# Altium schematic symbol library Schlib1.SchLib: 59 symbols
Pins are listed as number, name and electrical type; pins without a type are passive.

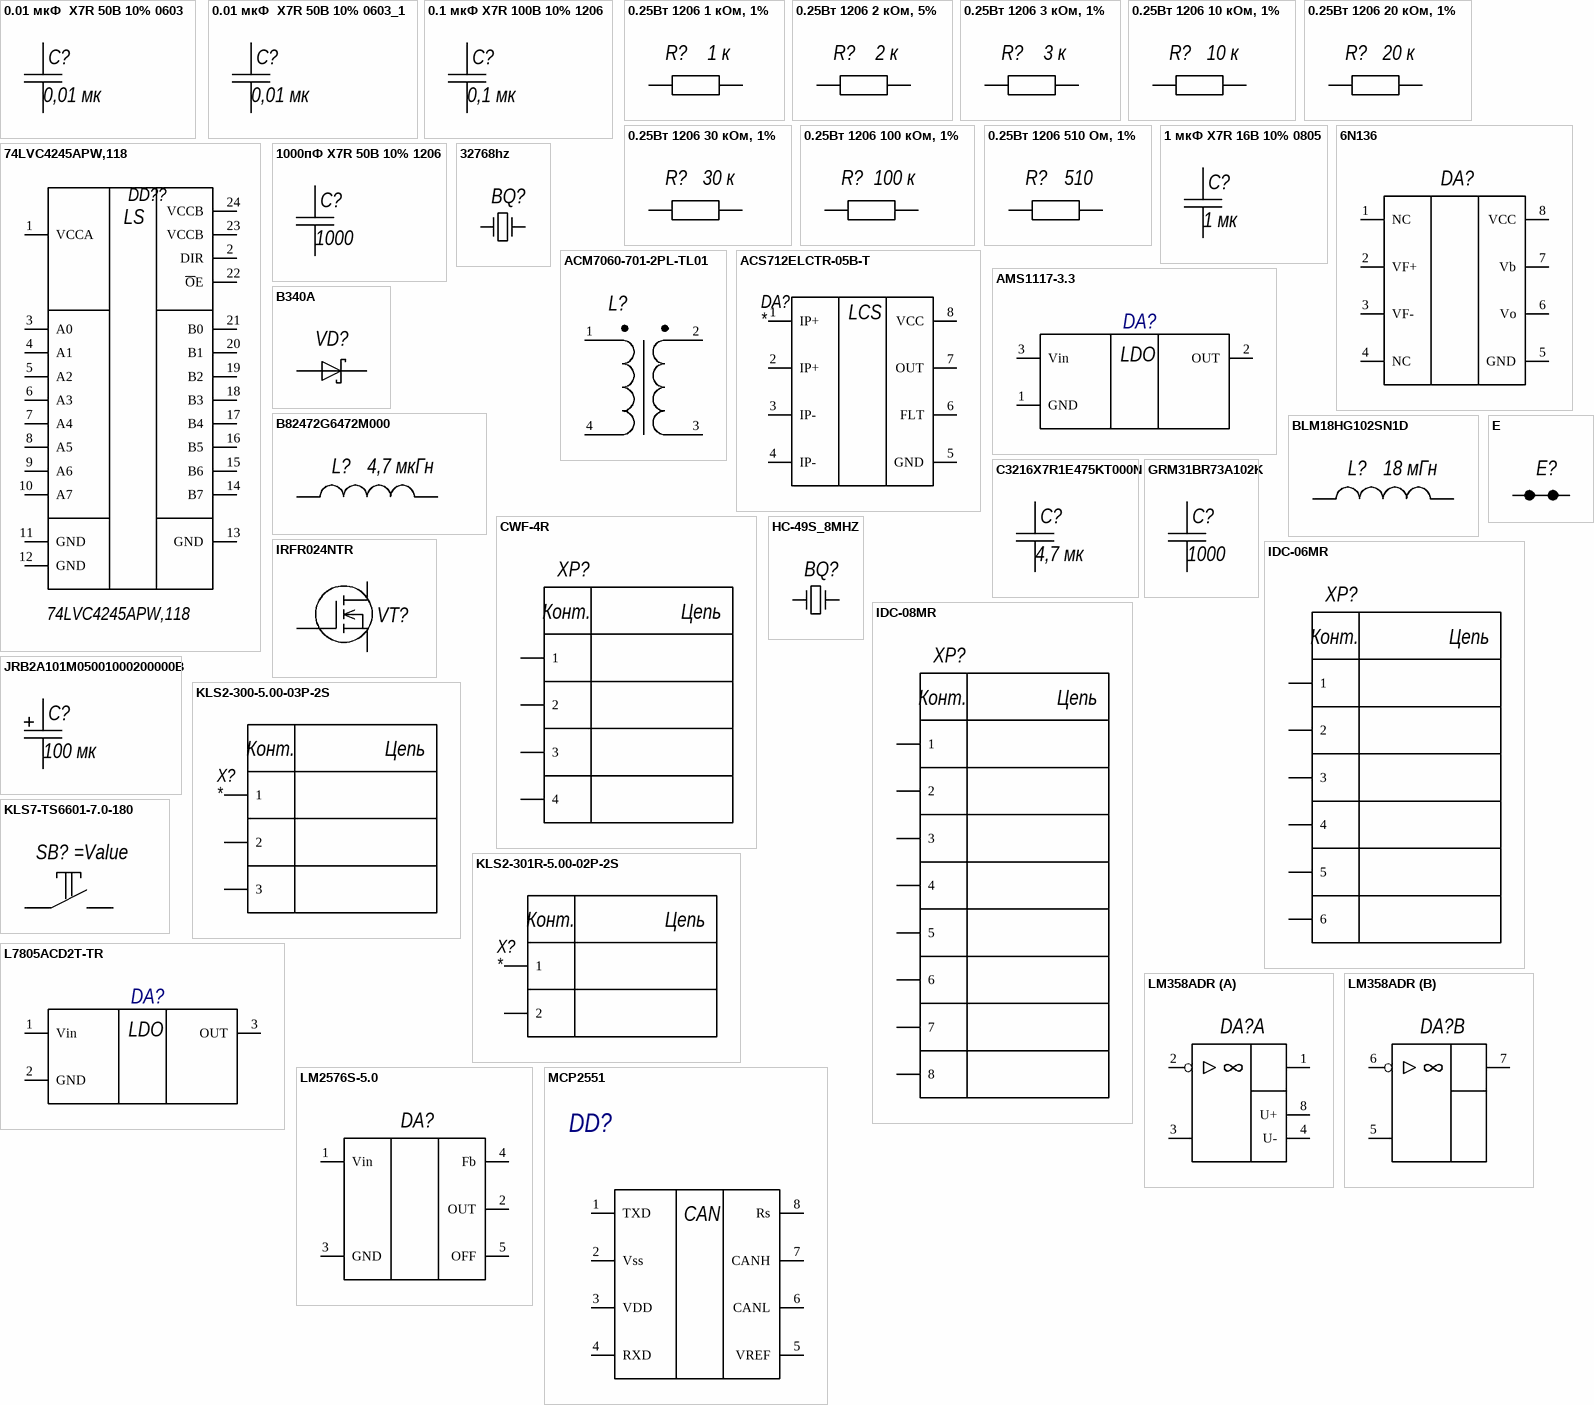
[diagram p0: symbols 0.01 мкФ  X7R 50В 10% 0603 to MCP2551]

## 0.01 мкФ  X7R 50В 10% 0603
designator C?, comment 0,01 мк
Конденсатор 0,01 мкФ 50 В; Part Number: 0.01 мкФ  X7R 50В 10% 0603; Manufacturer: Murata; Article: 238964796; Voltage: 50 В; Type: Конденсатор; Value: 0,01 мк; Price: 7; Footprint: 0603
footprint C0603 (1608(Metric))
pins: 1, 2

## 0.01 мкФ  X7R 50В 10% 0603_1
designator C?, comment 0,01 мк
Конденсатор 0,01 мкФ 50 В; Part Number: 0.01 мкФ  X7R 50В 10% 0603; Manufacturer: Murata; Article: 238964796; Voltage: 50 В; Type: Конденсатор; Value: 0,01 мк; Price: 7; Footprint: 0603
footprint C0603 (1608(Metric))
pins: 1, 2

## 0.1 мкФ Х7R 100В 10% 1206
designator C?, comment 0,1 мк
Конденсатор 0,1 мкФ 100 В; Part Number: 0.1 мкФ Х7R 100В 10% 1206; Manufacturer: Китай; Voltage: 1 кВ; Type: Конденсатор; Value: 0,1 мк; Price: 6; Footprint: 1206
footprint C1206 (3216(Metric))
pins: 1, 2

## 0.25Вт 1206 1 кОм, 1%
designator R?, comment 1 к
Резистор; Part Number: 0.25Вт 1206 1 кОм, 1%; Manufacturer: Тайвань; Article: 9000079635; Type: Резистор; Value: 1 к; Price: 6; Package: 1206
footprint R1206 (3216M)
pins: 1, 2

## 0.25Вт 1206 2 кОм, 5%
designator R?, comment 2 к
Резистор; Part Number: 0.25Вт 1206 2 кОм, 5%; Manufacturer: Тайвань; Article: 984099856; Type: Резистор; Value: 2 к; Price: 6; Package: 1206
footprint R1206 (3216M)
pins: 1, 2

## 0.25Вт 1206 3 кОм, 1%
designator R?, comment 3 к
Резистор; Part Number: 0.25Вт 1206 3 кОм, 1%; Manufacturer: Тайвань; Article: 9000079646; Type: Резистор; Value: 3 к; Price: 6; Package: 1206
footprint R1206 (3216M)
pins: 1, 2

## 0.25Вт 1206 10 кОм, 1%
designator R?, comment 10 к
Резистор; Part Number: 0.25Вт 1206 10 кОм, 1%; Manufacturer: Тайвань; Article: 9000079659; Type: Резистор; Value: 10 к; Price: 6; Package: 1206
footprint R1206 (3216M)
pins: 1, 2

## 0.25Вт 1206 20 кОм, 1%
designator R?, comment 20 к
Резистор; Part Number: 0.25Вт 1206 20 кОм, 1%; Manufacturer: Тайвань; Type: Резистор; Value: 20 к; Price: 6; Package: 1206
footprint R1206 (3216M)
pins: 1, 2

## 0.25Вт 1206 30 кОм, 1%
designator R?, comment 30 к
Резистор; Part Number: 0.25Вт 1206 30 кОм, 1%; Manufacturer: Тайвань; Article: 9000079684; Type: Резистор; Value: 30 к; Price: 6; Package: 1206
footprint R1206 (3216M)
pins: 1, 2

## 0.25Вт 1206 100 кОм, 1%
designator R?, comment 100 к
Резистор; Part Number: 0.25Вт 1206 100 кОм, 1%; Manufacturer: Тайвань; Article: 9000079697; Type: Резистор; Value: 100 к; Price: 6; Package: 1206
footprint R1206 (3216M)
pins: 1, 2

## 0.25Вт 1206 510 Ом, 1%
designator R?, comment 510
Резистор; Part Number: 0.25Вт 1206 510 Ом, 1%; Manufacturer: Тайвань; Article: 9000079908; Type: Резистор; Value: 510; Price: 6; Package: 1206
footprint R1206 (3216M)
pins: 1, 2

## 1 мкФ X7R 16В 10% 0805
designator C?, comment 1 мк
Конденсатор 1 мкФ 16 В; Part Number: 1 мкФ X7R 16В 10% 0805; Manufacturer: Китай; Article: 768017701; Voltage: 16 В; Type: Конденсатор; Value: 1 мк; Price: 9; Footprint: 0805
footprint C0805 (2012(Metric))
pins: 1, 2

## 6N136
designator DA?
Оптопара транзисторная; Part Number: 6N136; Manufacturer: UMW; Article: 9001106156; Type: Микросхема; Price: 36; Package: dip-8
footprint 6N136
pins: 1 NC "анод 2 канала", 2 VF+ "анод 2 канала", 3 VF- "анод 2 канала", 4 NC "катод 2 канала", 5 GND "выход 2 канала", 6 Vo "выход 2 канала", 7 Vb "выход 2 канала", 8 VCC "выход 2 канала"

## 74LVC4245APW,118
designator DD??
Преобразователь уровней 5В-3,3В; Manufacturer: Nexperia; Article: 9000002267; Part Number: 74LVC4245APW,118; Type: Микросхема; Price: 140; Package: TSSOP-24
footprint TSSOP-24
pins: 1 VCCA, 2 DIR, 3 A0, 4 A1, 5 A2, 6 A3, 7 A4, 8 A5, 9 A6, 10 A7, 11 GND, 12 GND, 13 GND, 14 B7, 15 B6, 16 B5, 17 B4, 18 B3, 19 B2, 20 B1, 21 B0, 22 ~{O}E, 23 VCCB, 24 VCCB
text: LS

## 1000пФ X7R 50В 10% 1206
designator C?, comment 1000
Конденсатор 1000пФ 50 В; Part Number: 1000пФ X7R 50В 10% 1206; Manufacturer: Китай; Article: 9000028006; Voltage: 50 В; Type: Конденсатор; Value: 1000; Price: 9; Footprint: 1206
footprint C1206 (3216(Metric))
pins: 1, 2

## 32768hz
designator BQ?
Кварцевый резонатор; Part Number: 32768hz; Manufacturer: Китай; Article: 9000372611; Type: Резонатор кварцевый; Price: 98
footprint 32768SMD
pins: 1, 3

## ACM7060-701-2PL-TL01
designator L?
Part Number: ACM7060-701-2PL-TL01; Manufacturer: TDK; Type: Дроссель; Article: 9000322175; Price: 340
footprint ACM7060-701-2PL-TL01
pins: 1, 2, 3, 4

## ACS712ELCTR-05B-T
designator DA?
Датчик тока; Part Number: ACS712ELCTR-05B-T; Manufacturer: Allegro Systems; Article: 8010447146; Price: 220; Package: SOIC-8
footprint SOIC-8 (4320.8-А Small Outline; 8 Leads; Body Width 3.9 mm; Pitch 1.27 mm)
pins: 1 IP+, 2 IP+, 3 IP-, 4 IP-, 5 GND, 6 FLT, 7 OUT, 8 VCC
text: LCS

## AMS1117-3.3
designator DA?
Стабилизатор напряжения; Part Number: AMS1117-3.3; Manufacturer: UMW; Max Current: 0.8A; Article: 9001169164; Type: Микросхема; Price: 9; Package: SOT-223
footprint SOT-223-3
pins: 1 GND, 2 OUT, 3 Vin
text: LDO

## B340A
designator VD?
Диод Шоттки; Part Number: B340A; Manufacturer: Vishay; Current: 3 A; Reverse Voltage: 40 V; Article: 9001002895; Type: Диод Шоттки; Package: SMA; Price: 7
footprint B340A ((SMA) Low profile package)
pins: A, C

## B82472G6472M000
designator L?, comment 4,7 мкГн
Дроссель; Part Number: B82472G6472M000; Manufacturer: Epcos; Max Current: 2.5 A; Article: 9000504715; Type: Дроссель; Value: 4,7 мкГн
footprint B82472G6472M000
pins: 1, 2

## BLM18HG102SN1D
designator L?, comment 18 мГн
Дроссель; Part Number: BLM18HG102SN1D; Manufacturer: Murata; Max Current: 0,1 А; Article: 218909268; Type: Дроссель; Value: 18 мГн; Package: 0603
footprint R0603 (1608(Metric))
pins: 1, 2

## C3216X7R1E475KT000N
designator C?, comment 4,7 мк
Конденсатор 4,7 мкФ 25 В; Part Number: C3216X7R1E475KT000N; Manufacturer: TDK; Article: 8017208948; Voltage: 25 В; Type: Конденсатор; Value: 4,7 мк; Price: 22; Footprint: 1206
footprint C1206 (3216(Metric))
pins: 1, 2

## CWF-4R
designator XP?  (value not drawn)
Вилка; Part Number: DS1069-4MRW6XB; Manufacturer: Connfly; Article: 26546; Type: Вилка; Price: 9
footprint CWF-4R
pins: 1, 2, 3, 4
text: Конт.; Цепь

## E
designator E?
Перемычка; Type: Перемычка
footprint E2 (Перемычка)
pins: 1, 2

## GRM31BR73A102K
designator C?, comment 1000
Конденсатор 1000пФ; Part Number: GRM31BR73A102K; Manufacturer: Murata; Article: 961638233; Voltage: 1 кВ; Type: Конденсатор; Value: 1000; Price: 24; Footprint: 1206
footprint R1206 (3216M)
pins: 1, 2

## HC-49S_8MHZ
designator BQ?
Part Number: 8.000MHzHC-49US; Manufacturer: Китай; Article: 297062262; Type: Резонатор кварцевый; Price: 38
footprint HC-49S (HC49 Short Through-hole Mount Footprint)
pins: 1, 3

## IDC-06MR
designator XP?  (value not drawn)
Вилка; Part Number: IDC-06MR; Manufacturer: Connfly; Article: 8022508557; Type: Вилка; Price: 9
footprint IDC-06MR
pins: 1, 2, 3, 4, 5, 6
text: Конт.; Цепь

## IDC-08MR
designator XP?  (value not drawn)
Вилка; Part Number: IDC-08MR; Manufacturer: Connfly; Article: 8841479946; Type: Вилка; Price: 15
footprint SAMTEC_TST-104-04-T-D-RA
pins: 1, 2, 3, 4, 5, 6, 7, 8
text: Конт.; Цепь

## IRFR024NTR
designator VT?
N-channel MOSFET; Part Number: IRFR024NTR; Manufacturer: UMW; Type: Транзистор; Article: 9001169193; Package: DPAK/TO-252; Price: 28
footprint DPAK (КТ-89, TO252)
pins: 1 G, 2 D, 3 S

## JRB2A101M05001000200000B
designator C?, comment 100 мк
Конденсатор электролитический алюминиевый; Part Number: JRB2A101M05001000200000B; Manufacturer: JB Capactiors; Article: 9000565887; Type: Конденсатор; Price: 24; Value: 100 мк
footprint Capacitor10x20
pins: n 2, p 1

## KLS2-300-5.00-03P-2S
designator X?
Соединитель; Part Number: KLS2-300-5.00-03P-2S; Manufacturer: KLS; Current: 16 А; Price: 35
footprint KLS2-300-5.00-03P-2S
pins: 1, 2, 3
text: Конт.; Цепь

## KLS2-301R-5.00-02P-2S
designator X?
Соединитель; Part Number: KLS2-301R-5.00-02P-2S; Manufacturer: KLS; Current: 16 А; Article: 9000329476; Price: 18
footprint KLS2-301R-5.00-02P-2S
pins: 1, 2
text: Конт.; Цепь

## KLS7-TS6601-7.0-180
designator SB?
Part Number: KLS7-TS6601-7.0-180; Manufacturer: KLS; Article: 9000336827; Type: Переключатель; Price: 9
footprint KLS7-TS6601-7.0-180
pins: 1, 2

## L7805ACD2T-TR
designator DA?
Стабилизатор напряжения; Part Number: L7805ACD2T-TR; Manufacturer: STMicroelectronics; Max Current: 1.5A; Article: 9000076530; Type: Микросхема; Price: 76; Package: D2PAK
footprint D2PAK(TO-263)
pins: 1 Vin, 2 GND, 3 OUT
text: LDO

## LM358ADR
designator DA?
Операционный усилитель; Part Number: LM358ADR; Manufacturer: UMW; Article: 9001105975; Type: Микросхема; Price: 9; Package: SOP-8
footprint SOIC-8 (4320.8-А Small Outline; 8 Leads; Body Width 3.9 mm; Pitch 1.27 mm)
part A pins: 1 OUT "Выход", 2 IN- "Вход инверсный", 3 IN+ "Вход неинверсный", 4 U- (power) "Вывод питания от источника отрицательного напряжения", 8 U+ (power) "Вывод питания от источника положительного напряжения"
part B pins: 5 IN+ "Вход неинверсный", 6 IN- "Вход инверсный", 7 OUT "Выход"

## LM2576S-5.0
designator DA?
Импульсный стабилизатор напряжения; Part Number: LM2576S-5.0; Manufacturer: UMW; Article: 9001169284; Type: Микросхема; Price: 84; Package: TO-263-5
footprint TO-263-5 (D2-PAK, 6-Pads, Body 8,9x9,9mm (max), IPC Low Density)
pins: 1 Vin "анод 2 канала", 2 OUT "выход 2 канала", 3 GND "катод 2 канала", 4 Fb "катод 2 канала", 5 OFF "катод 2 канала"

## MCP2551
designator DD?
Высокоскоростной CAN-Трансивер, 1Мб/с, 12В/24В, до 112 узлов; Part Number: MCP2551T-I/SN; Manufacturer: Microchip; Article: 9000071123; Type: Микросхема; Price: 160; Package: SO-8
footprint SOIC-8 (4320.8-А Small Outline; 8 Leads; Body Width 3.9 mm; Pitch 1.27 mm)
pins: 1 TXD, 2 Vss, 3 VDD, 4 RXD, 5 VREF, 6 CANL, 7 CANH, 8 Rs
text: CAN

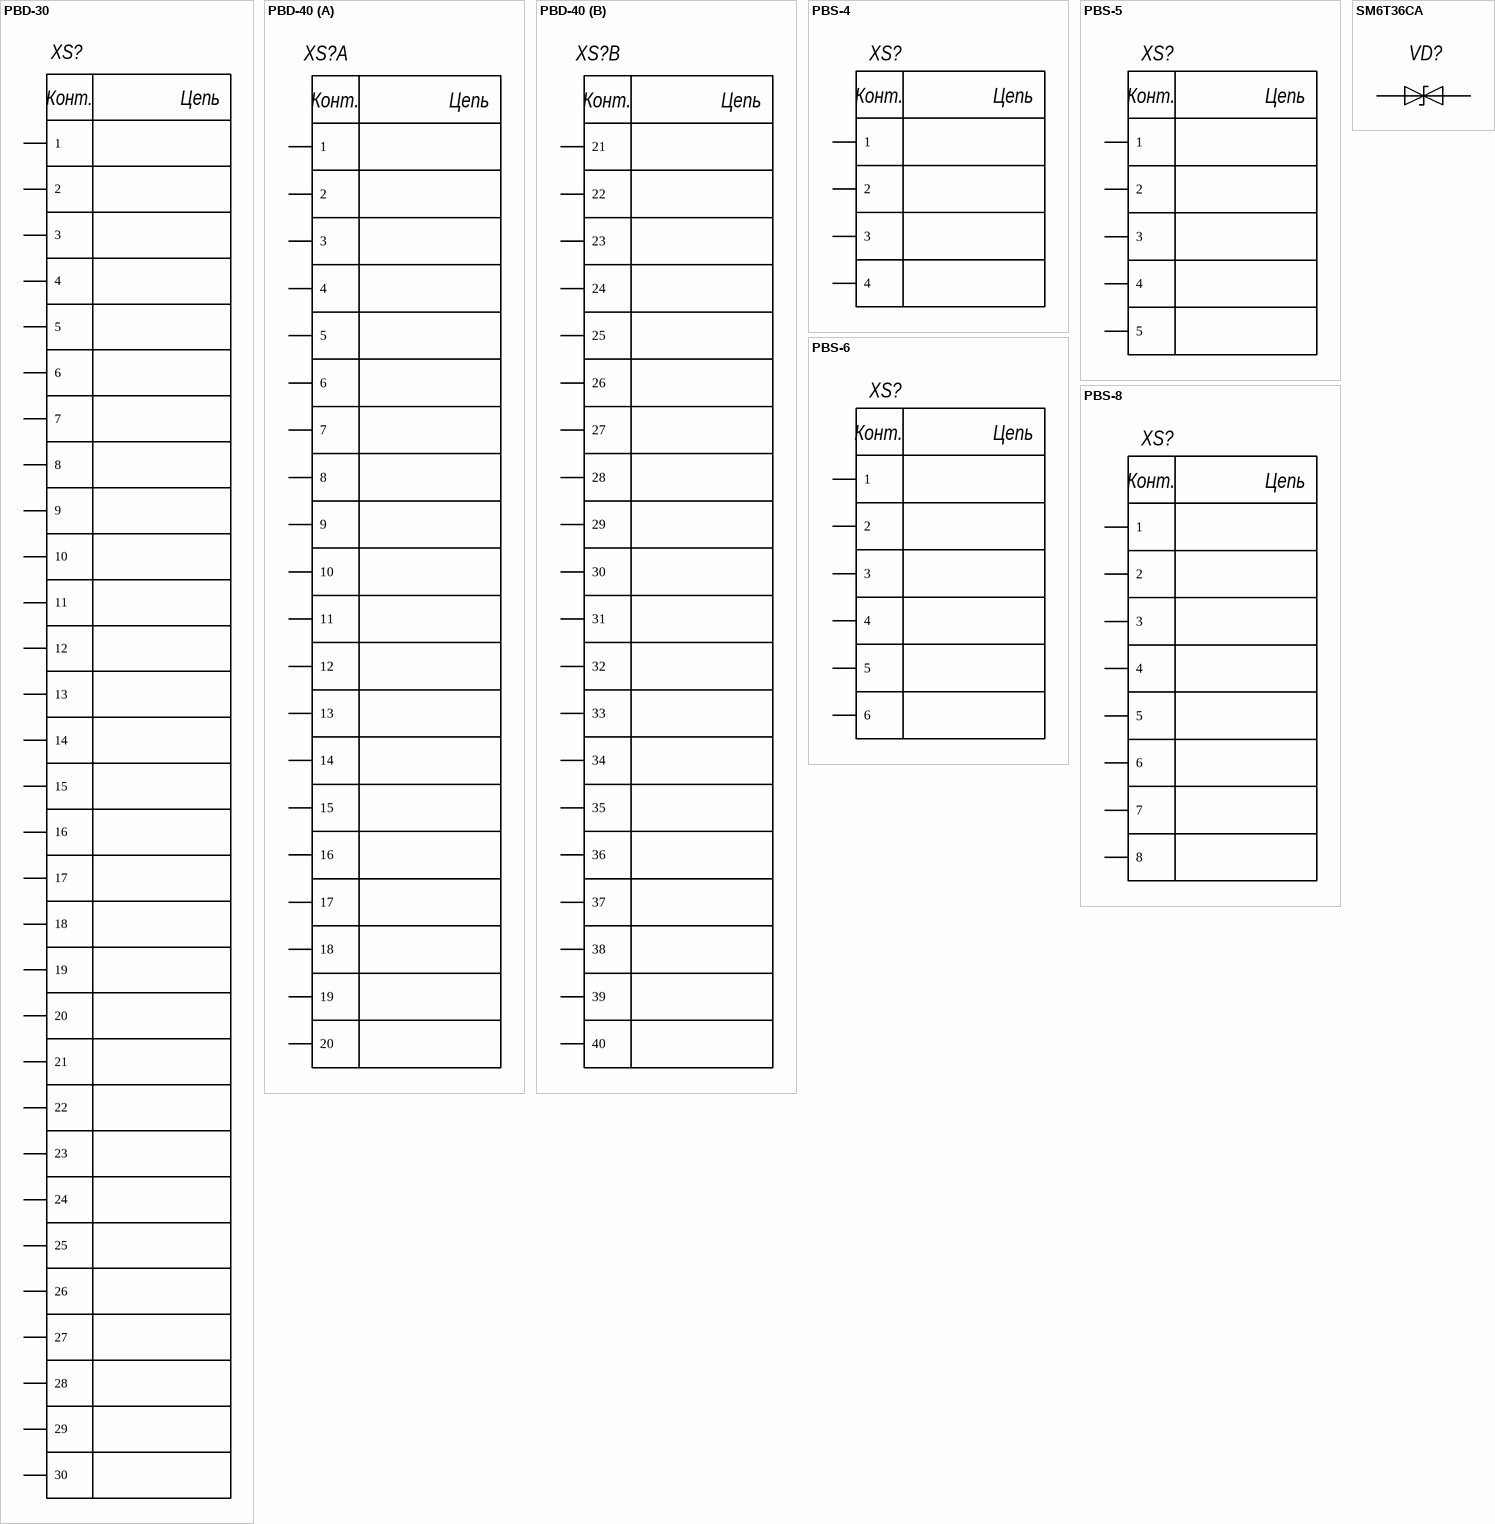
[diagram p1: symbols PBD-30 to SM6T36CA]

## PBD-30
designator XS?  (value not drawn)
Розетка; Part Number: DS1023-2*15S21; Manufacturer: Connfly; Article: 26334; Type: Розетка; Price: 34
footprint PBD-30
pins: 1, 2, 3, 4, 5, 6, 7, 8, 9, 10, 11, 12, 13, 14, 15, 16, 17, 18, 19, 20, 21, 22, 23, 24, 25, 26, 27, 28, 29, 30
text: Конт.; Цепь

## PBD-40
designator XS?  (value not drawn)
Розетка; Part Number: DS1023-2*20S21; Manufacturer: Connfly; Article: 29417; Type: Розетка; Price: 29
footprint RPI4B - duplicate
part A pins: 1, 2, 3, 4, 5, 6, 7, 8, 9, 10, 11, 12, 13, 14, 15, 16, 17, 18, 19, 20
part B pins: 21, 22, 23, 24, 25, 26, 27, 28, 29, 30, 31, 32, 33, 34, 35, 36, 37, 38, 39, 40
part A text: Конт.; Цепь
part B text: Конт.; Цепь

## PBS-4
designator XS?  (value not drawn)
Розетка; Part Number: DS1023-1*4S21; Manufacturer: Connfly; Article: 12854; Type: Вилка; Price: 9
footprint type-c
pins: 1, 2, 3, 4
text: Конт.; Цепь

## PBS-5
designator XS?  (value not drawn)
Розетка; Part Number: DS1023-1*5S21; Manufacturer: Connfly; Article: 29527; Type: Розетка; Price: 9
footprint PBS-5
pins: 1, 2, 3, 4, 5
text: Конт.; Цепь

## PBS-6
designator XS?  (value not drawn)
Розетка; Part Number: DS1023-1*6S21; Manufacturer: Connfly; Article: 63236; Type: Розетка; Price: 13
footprint PBS-6
pins: 1, 2, 3, 4, 5, 6
text: Конт.; Цепь

## PBS-8
designator XS?  (value not drawn)
Розетка; Part Number: DS1023-1*8S21; Manufacturer: Connfly; Article: 32562; Type: Розетка; Price: 13
footprint PBS-8
pins: 1, 2, 3, 4, 5, 6, 7, 8
text: Конт.; Цепь

## SM6T36CA
designator VD?
Ограничитель напряжения; Part Number: SM6T36CA; Manufacturer: Sunmate; Article: 9001052836; Type: Ограничитель напряжения; Price: 9; Package: DO214AA/SMB
footprint DO-214AA ((SMB) Low profile package)
pins: 1 A, 2 A

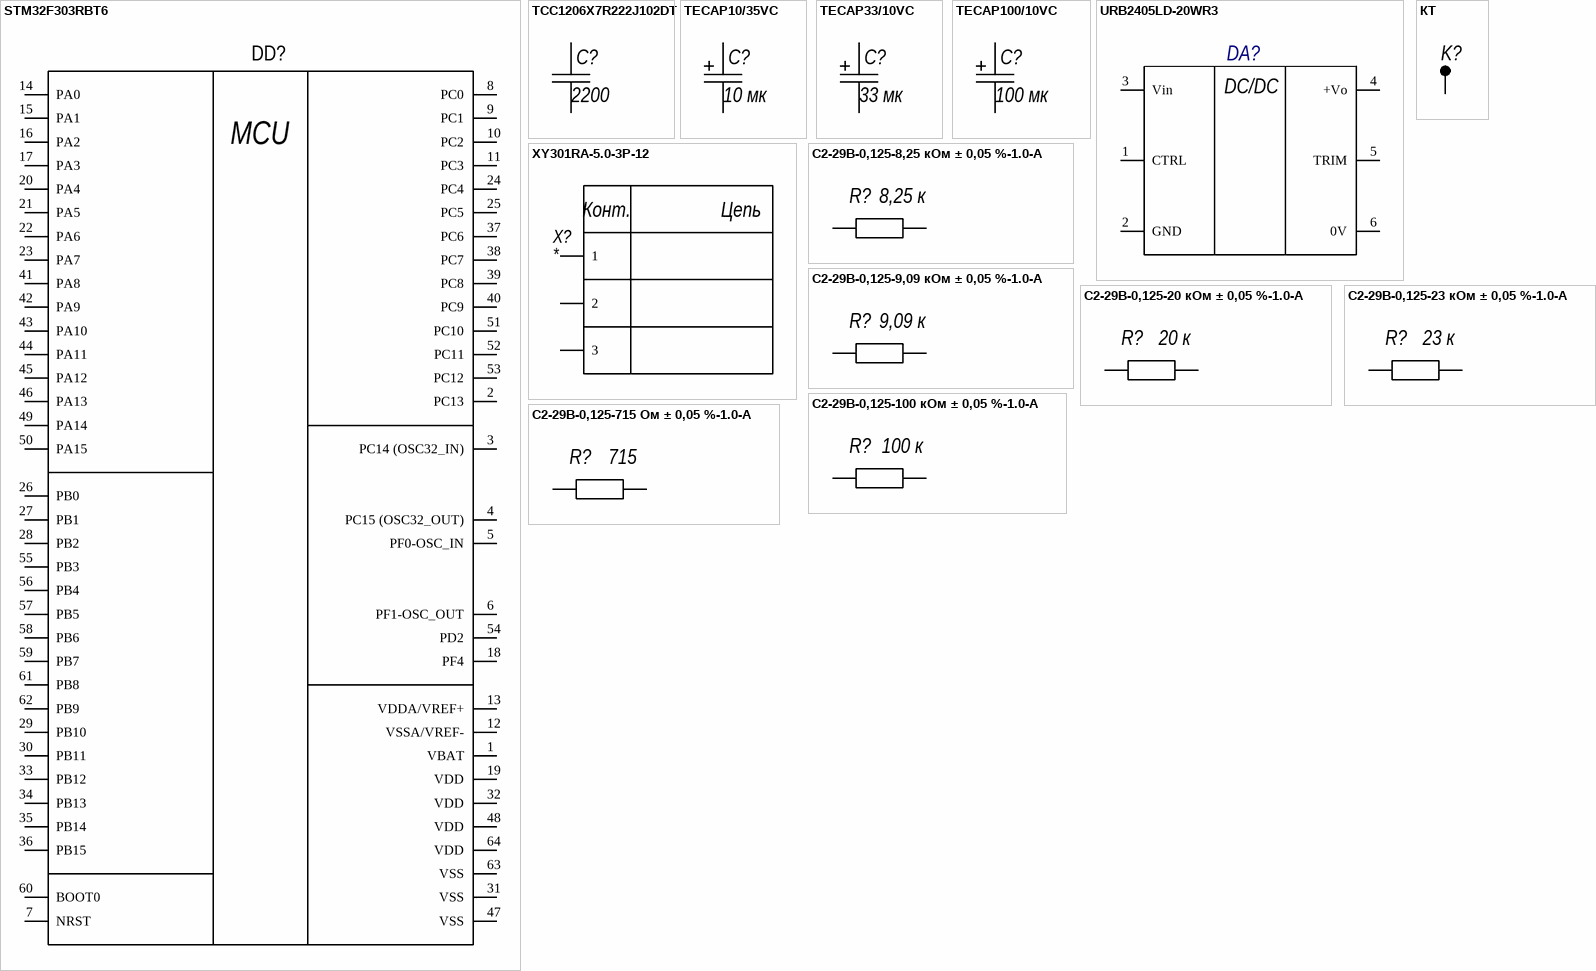
[diagram p2: symbols STM32F303RBT6 to С2-29В-0,125-715 Ом ± 0,05 %-1.0-А]

## STM32F303RBT6
designator DD?, comment Микроконтроллер  (value not drawn)
STM32F303RBT6; Manufacturer: STMicroelectronics; Flash: 128KB; Core: Cortex®-M4; Operation frequency: 72MHz; Voltage range: 1.7 V to 3.6 V; I/O Lines: 87; Timers: 13; DAC: 2; Clock management: 4 to 32 MHz crystal oscillator; ADC: 4; Article: 9001089793; Type: Микроконтроллер; Price: 410; Operating temperature: -40°C to 85°C; Part Number: STM32F303RBT6
footprint LQFP-64 (Thin QFP, 64-Leads, Body 10x10mm, Pitch 0.5mm, IPC Medium Density)
pins: 1 VBAT, 2 PC13, 3 PC14 (OSC32_IN), 4 PC15 (OSC32_OUT), 5 PF0-OSC_IN, 6 PF1-OSC_OUT (power), 7 NRST (power), 8 PC0 (power), 9 PC1 (power), 10 PC2, 11 PC3, 12 VSSA/VREF-, 13 VDDA/VREF+, 14 PA0, 15 PA1, 16 PA2, 17 PA3, 18 PF4, 19 VDD, 20 PA4, 21 PA5, 22 PA6, 23 PA7, 24 PC4, 25 PC5, 26 PB0, 27 PB1, 28 PB2, 29 PB10, 30 PB11, 31 VSS, 32 VDD, 33 PB12, 34 PB13, 35 PB14, 36 PB15, 37 PC6, 38 PC7, 39 PC8, 40 PC9, 41 PA8, 42 PA9, 43 PA10, 44 PA11, 45 PA12, 46 PA13, 47 VSS, 48 VDD, 49 PA14, 50 PA15, 51 PC10, 52 PC11, 53 PC12 (power), 54 PD2, 55 PB3, 56 PB4, 57 PB5, 58 PB6, 59 PB7, 60 BOOT0, 61 PB8, 62 PB9, 63 VSS, 64 VDD
text: MCU

## TCC1206X7R222J102DT
designator C?, comment 2200
Конденсатор 2200 пФ 1000 В; Part Number: TCC1206X7R222J102DT; Manufacturer: CCTC; Article: 9001208170; Voltage: 1000 В; Type: Конденсатор; Value: 2200; Price: 2; Footprint: 1206
footprint C1206 (3216(Metric))
pins: 1, 2

## TECAP10/35VC
designator C?, comment 10 мк
Конденсатор танталовый 10 мкФ; Part Number: TECAP10/35VC, 10%; Manufacturer: TECAP; Article: 9000629228; Voltage: 35 В; Type: Конденсатор; Price: 46; Value: 10 мк; Footprint: Case C
footprint Case C (C6032-P)
pins: n 2, p 1

## TECAP33/10VC
designator C?, comment 33 мк
Конденсатор танталовый 33 мкФ; Part Number: TECAP33/10VC10; Manufacturer: TECAP; Article: 327616199; Type: Конденсатор; Price: 39; Value: 33 мк; Footprint: Case C
footprint Case C (C6032-P)
pins: n 2, p 1

## TECAP100/10VC
designator C?, comment 100 мк
Конденсатор танталовый 100 мкФ; Part Number: TECAP100/10VC, 10%; Manufacturer: TECAP; Article: 9000629231; Type: Конденсатор; Price: 39; Value: 100 мк; Footprint: Case C
footprint Case C (C6032-P)
pins: n 2, p 1

## URB2405LD-20WR3
designator DA?, comment Part Number  (value not drawn)
DC/DC преобразователь; Part Number: Mornsun; Manufacturer: URB2405LD-20WR3; Type: Модуль питания; Price: 900
footprint URB_LD-20WR3
pins: 1 CTRL, 2 GND, 3 Vin, 4 +Vo, 5 TRIM, 6 0V
text: DC/DC

## XY301RA-5.0-3P-12
designator X?
Соединитель; Part Number: XY301RA-5.0-3P-12; Manufacturer: Ningbo; Current: 16 А; Article: 53451; Price: 41
footprint XY301RA-5.0-3P-12
pins: 1, 2, 3
text: Конт.; Цепь

## КТ
designator K?  (value not drawn)
Контрольная точка; Type: Неразборное соединение; Manufacturer: *; ManufacturerPartNumber: *
footprint E1(1mm)
pins: 1

## С2-29В-0,125-8,25 кОм ± 0,05 %-1.0-А
designator R?, comment 8,25 к
Резистор; Part Number: С2-29В-0,125-8,25 кОм ± 0,05 %-1.0-А; Type: Резистор; Value: 8,25 к
footprint С2-29В
pins: 1, 2

## С2-29В-0,125-9,09 кОм ± 0,05 %-1.0-А
designator R?, comment 9,09 к
Резистор; Part Number: С2-29В-0,125-9,09 кОм ± 0,05 %-1.0-А; Type: Резистор; Value: 9,09 к
footprint С2-29В
pins: 1, 2

## С2-29В-0,125-20 кОм ± 0,05 %-1.0-А
designator R?, comment 20 к
Резистор; Part Number: С2-29В-0,125-20 кОм ± 0,05 %-1.0-А; Type: Резистор; Value: 20 к
footprint С2-29В
pins: 1, 2

## С2-29В-0,125-23 кОм ± 0,05 %-1.0-А
designator R?, comment 23 к
Резистор; Part Number: С2-29В-0,125-23 кОм ± 0,05 %-1.0-А; Type: Резистор; Value: 23 к
footprint С2-29В
pins: 1, 2

## С2-29В-0,125-100 кОм ± 0,05 %-1.0-А
designator R?, comment 100 к
Резистор; Part Number: С2-29В-0,125-100 кОм ± 0,05 %-1.0-А; Type: Резистор; Value: 100 к
footprint С2-29В
pins: 1, 2

## С2-29В-0,125-715 Ом ± 0,05 %-1.0-А
designator R?, comment 715
Резистор; Part Number: С2-29В-0,125-715 Ом ± 0,05 %-1.0-А; Type: Резистор; Value: 715
footprint С2-29В
pins: 1, 2